# EAGLE library part WE-DS_246617113 (library wurth_elektronik_passive_rev16d)
WE-DS D-SUB-Filter Connectors Bent 90° Characteristics Standard type filtered with 1000 pF High attenuation of more than 40 dB @ 180 MHz Low size: 6.3 mm Rated voltage: 125 VDC Rated current @ 20 ºC: 5 A Withstand voltage: 250 VRMS Insulation resistance: min. 1000 MΩ Operating temperature: –55 ºC to +125 ºC Applications Filtering of interfaces External connection to -printer -sensor -display <http://katalog.we-online.de/media/thumbs2/eisos/thb_AbsDSubFilter_SMD_pf2.jpg> Details see: http://katalog.we-online.de/en/pbs/D-SUB-Filter Bent 90° <http://katalog.we-online.de/en/pbs/Filter_SMD?sid=29b915c42a> Created on 2015-05-04 2015 (C) Wurth Elektronik
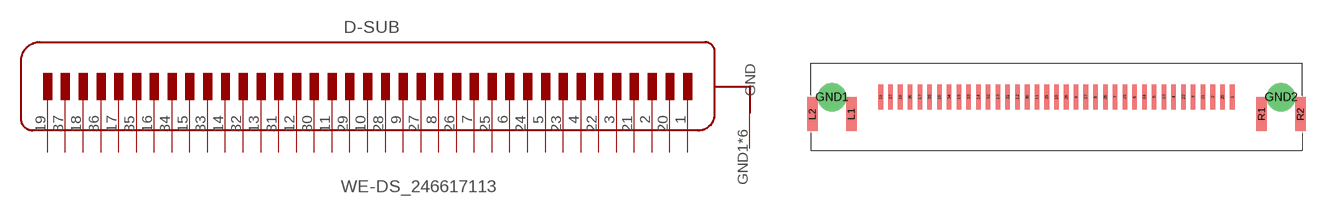
[diagram p211: symbol with the pads of WE-DS_246617113; footprint WE-DS_246617113]

Designator prefix D-SUB

## WE-DS_246617113  [WE-DS_246617113]
1  19
2  18
3  17
4  16
5  15
6  14
7  13
8  12
9  11
10  10
11  9
12  8
13  7
14  6
15  5
16  4
17  3
18  2
19  1
20  37
21  36
22  35
23  34
24  33
25  32
26  31
27  30
28  29
29  28
30  27
31  26
32  25
33  24
34  23
35  22
36  21
37  20
GND1  GND
GND2  GND
L1  GND
L2  GND
R1  GND
R2  GND

## Footprint WE-DS_246617113 (pad centres in mm)
smd 0.65 x 3.5: 1 24.84,1.38; 2 22.08,1.38; 3 19.32,1.38; 4 16.56,1.38; 5 13.8,1.38; 6 11.04,1.38; 7 8.28,1.38; 8 5.52,1.38; 9 2.76,1.38; 10 0,1.38; 11 -2.76,1.38; 12 -5.52,1.38; 13 -8.28,1.38; 14 -11.04,1.38; 15 -13.8,1.38; 16 -16.56,1.38; 17 -19.32,1.38; 18 -22.08,1.38; 19 -24.84,1.38; 20 23.46,1.38; 21 20.7,1.38; 22 17.94,1.38; 23 15.18,1.38; 24 12.42,1.38; 25 9.66,1.38; 26 6.9,1.38; 27 4.14,1.38; 28 1.38,1.38; 29 -1.38,1.38; 30 -4.14,1.38; 31 -6.9,1.38; 32 -9.66,1.38; 33 -12.42,1.38; 34 -15.18,1.38; 35 -17.94,1.38; 36 -20.7,1.38; 37 -23.46,1.38
drill 3 pad 3.9: GND1 -31.75,1.35; GND2 31.75,1.35
smd 1.5 x 4.8: L1 -29,-1.05; L2 -34.5,-1.05; R1 29,-1.05; R2 34.5,-1.05